# EAGLE library part NMOS2SM8 (library zetex)
Dual MOS FET
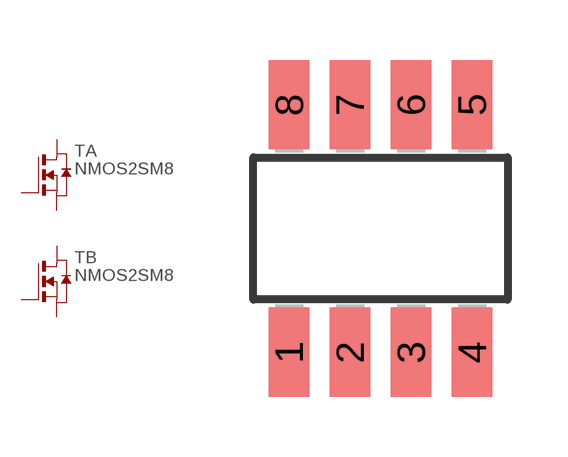
[diagram p6: symbol with the pads of SM8; footprint SM8]

Designator prefix T; gates A=N_MOSFET B=N_MOSFET

## NMOS2SM8 (OC_FARNELL: unknown; OC_NEWARK: unknown)  [SM8]
1  A:S  pas
2  A:G  pas
3  B:S  pas
4  B:G  pas
5  B:D  pas
6  B:D  pas
7  A:D  pas
8  A:D  pas

## Footprint SM8 (pad centres in mm)
SM8 Package
smd 1.016 x 2.235: 1 -2.286,-3.099; 2 -0.762,-3.099; 3 0.762,-3.099; 4 2.286,-3.099; 5 2.286,3.099; 6 0.762,3.099; 7 -0.762,3.099; 8 -2.286,3.099